# Altium schematic symbol library kmilo17pet-NSC_Switcher.SchLib: 2226 symbols (part 41 of 59)
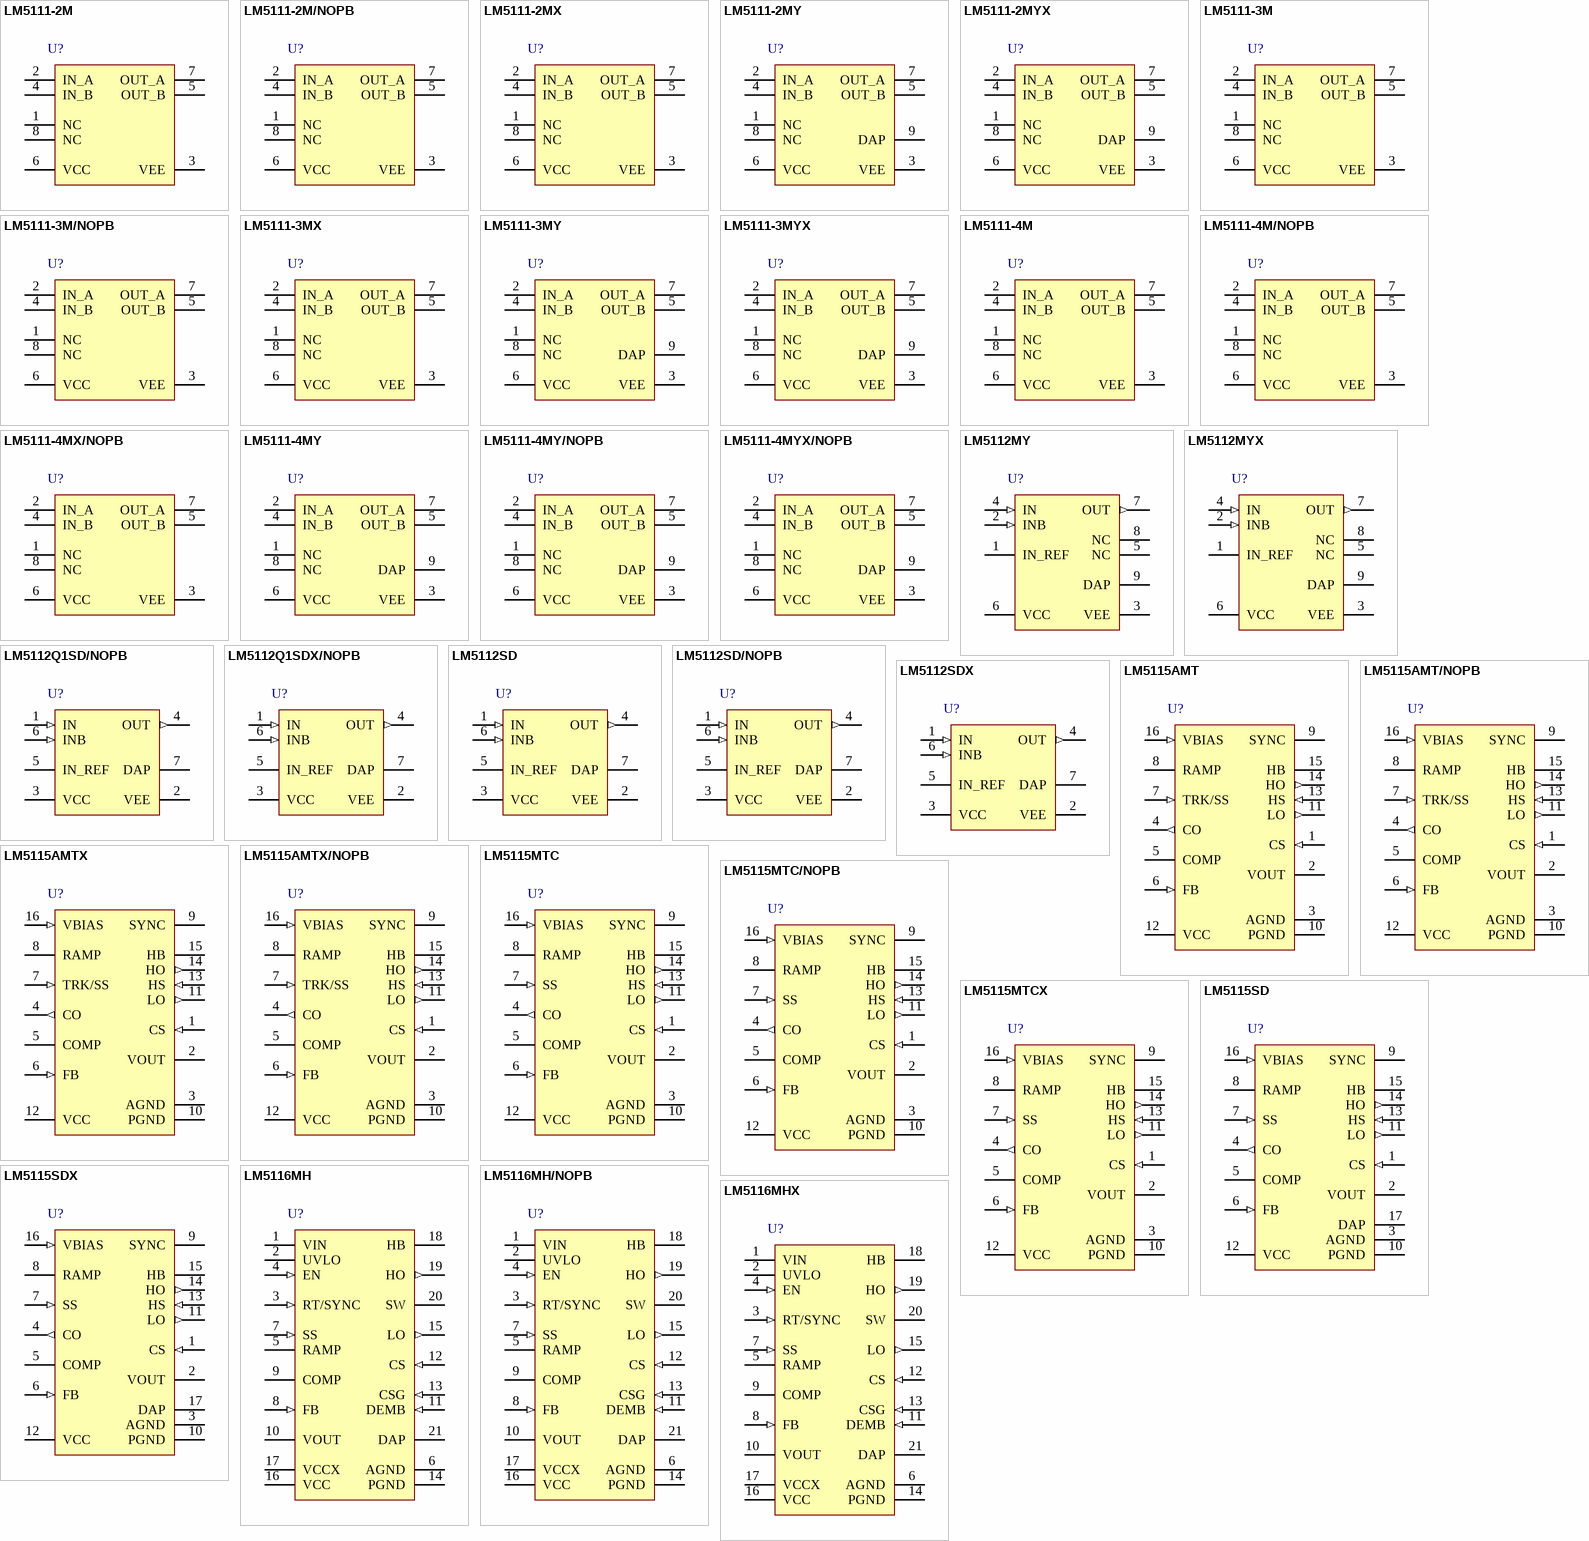
[diagram p109: symbols LM5111-2M to LM5116MHX]

## LM5116MH
designator U?
Wide Range Synchronous Buck Controller, 20-pin TSSOP-EP; PartNumber: LM5116MH; Manufacturer: National Semiconductor; PackageTopMarking: NSUZXYTT*LM5116*MH; PowerWise: Y; CompType: Switcher; DatasheetVersion: Nov-2008; PackageVersion: revC, Jul-2006; PackageReference: MXA20A; PackageDescription: Molded TSSOP, Jedec, 6.5 x 4.4 x 0.9mm Body, 20 Lead, 0.65mm Pitch, Exposed Pad; RoHS: N; PinCount: 20; High-Reliability: Y; Code_JEDEC: MO-153-ACT; ComponentLink1Description: Manufacturer URL; ComponentLink1URL: http://www.national.com/; ComponentLink2Description: LM5116 Datasheet; ComponentLink2URL: http://www.national.com/ds/LM/LM5116.pdf; ComponentLink3Description: LM5116 Web Page; ComponentLink3URL: http://www.national.com/pf/LM/LM5116.html; ComponentLink4Description: MXA20A Package Page; ComponentLink4URL: http://www.national.com/packaging/folders/mxa20a.html
footprint MXA20A_N (TSOP, 20-Leads, Body 6.5x4.4mm, Pitch 0.65mm, Thermal Pad, IPC Medium Density)
footprint MXA20A_L (TSOP, 20-Leads, Body 6.5x4.4mm, Pitch 0.65mm, Thermal Pad, IPC High Density)
footprint MXA20A_M (TSOP, 20-Leads, Body 6.5x4.4mm, Pitch 0.65mm, Thermal Pad, IPC Low Density)
pins: 1 VIN (power), 2 UVLO, 3 RT/SYNC (in), 4 EN (in), 5 RAMP, 6 AGND (power), 7 SS (in), 8 FB (in), 9 COMP, 10 VOUT, 11 DEMB (in), 12 CS (in), 13 CSG (in), 14 PGND (power), 15 LO (out), 16 VCC (power), 17 VCCX (power), 18 HB, 19 HO (out), 20 SW (power), 21 DAP (power)

## LM5116MH/NOPB
designator U?
Wide Range Synchronous Buck Controller, 20-pin TSSOP-EP, Pb-Free; PartNumber: LM5116MH/NOPB; Manufacturer: National Semiconductor; PackageTopMarking: NSUZXYTT*LM5116*MH; PowerWise: Y; CompType: Switcher; DatasheetVersion: Nov-2008; PackageVersion: revC, Jul-2006; PackageReference: MXA20A; PackageDescription: Molded TSSOP, Jedec, 6.5 x 4.4 x 0.9mm Body, 20 Lead, 0.65mm Pitch, Exposed Pad; RoHS: Y; PinCount: 20; High-Reliability: Y; Code_JEDEC: MO-153-ACT; ComponentLink1Description: Manufacturer URL; ComponentLink1URL: http://www.national.com/; ComponentLink2Description: LM5116 Datasheet; ComponentLink2URL: http://www.national.com/ds/LM/LM5116.pdf; ComponentLink3Description: LM5116 Web Page; ComponentLink3URL: http://www.national.com/pf/LM/LM5116.html; ComponentLink4Description: MXA20A Package Page; ComponentLink4URL: http://www.national.com/packaging/folders/mxa20a.html
footprint MXA20A_N (TSOP, 20-Leads, Body 6.5x4.4mm, Pitch 0.65mm, Thermal Pad, IPC Medium Density)
footprint MXA20A_L (TSOP, 20-Leads, Body 6.5x4.4mm, Pitch 0.65mm, Thermal Pad, IPC High Density)
footprint MXA20A_M (TSOP, 20-Leads, Body 6.5x4.4mm, Pitch 0.65mm, Thermal Pad, IPC Low Density)
pins: 1 VIN (power), 2 UVLO, 3 RT/SYNC (in), 4 EN (in), 5 RAMP, 6 AGND (power), 7 SS (in), 8 FB (in), 9 COMP, 10 VOUT, 11 DEMB (in), 12 CS (in), 13 CSG (in), 14 PGND (power), 15 LO (out), 16 VCC (power), 17 VCCX (power), 18 HB, 19 HO (out), 20 SW (power), 21 DAP (power)

## LM5116MHX
designator U?
Wide Range Synchronous Buck Controller, 20-pin TSSOP-EP; PartNumber: LM5116MHX; Manufacturer: National Semiconductor; PackageTopMarking: NSUZXYTT*LM5116*MH; PowerWise: Y; CompType: Switcher; DatasheetVersion: Nov-2008; PackageVersion: revC, Jul-2006; PackageReference: MXA20A; PackageDescription: Molded TSSOP, Jedec, 6.5 x 4.4 x 0.9mm Body, 20 Lead, 0.65mm Pitch, Exposed Pad; RoHS: N; PinCount: 20; High-Reliability: Y; Code_JEDEC: MO-153-ACT; ComponentLink1Description: Manufacturer URL; ComponentLink1URL: http://www.national.com/; ComponentLink2Description: LM5116 Datasheet; ComponentLink2URL: http://www.national.com/ds/LM/LM5116.pdf; ComponentLink3Description: LM5116 Web Page; ComponentLink3URL: http://www.national.com/pf/LM/LM5116.html; ComponentLink4Description: MXA20A Package Page; ComponentLink4URL: http://www.national.com/packaging/folders/mxa20a.html
footprint MXA20A_N (TSOP, 20-Leads, Body 6.5x4.4mm, Pitch 0.65mm, Thermal Pad, IPC Medium Density)
footprint MXA20A_L (TSOP, 20-Leads, Body 6.5x4.4mm, Pitch 0.65mm, Thermal Pad, IPC High Density)
footprint MXA20A_M (TSOP, 20-Leads, Body 6.5x4.4mm, Pitch 0.65mm, Thermal Pad, IPC Low Density)
pins: 1 VIN (power), 2 UVLO, 3 RT/SYNC (in), 4 EN (in), 5 RAMP, 6 AGND (power), 7 SS (in), 8 FB (in), 9 COMP, 10 VOUT, 11 DEMB (in), 12 CS (in), 13 CSG (in), 14 PGND (power), 15 LO (out), 16 VCC (power), 17 VCCX (power), 18 HB, 19 HO (out), 20 SW (power), 21 DAP (power)

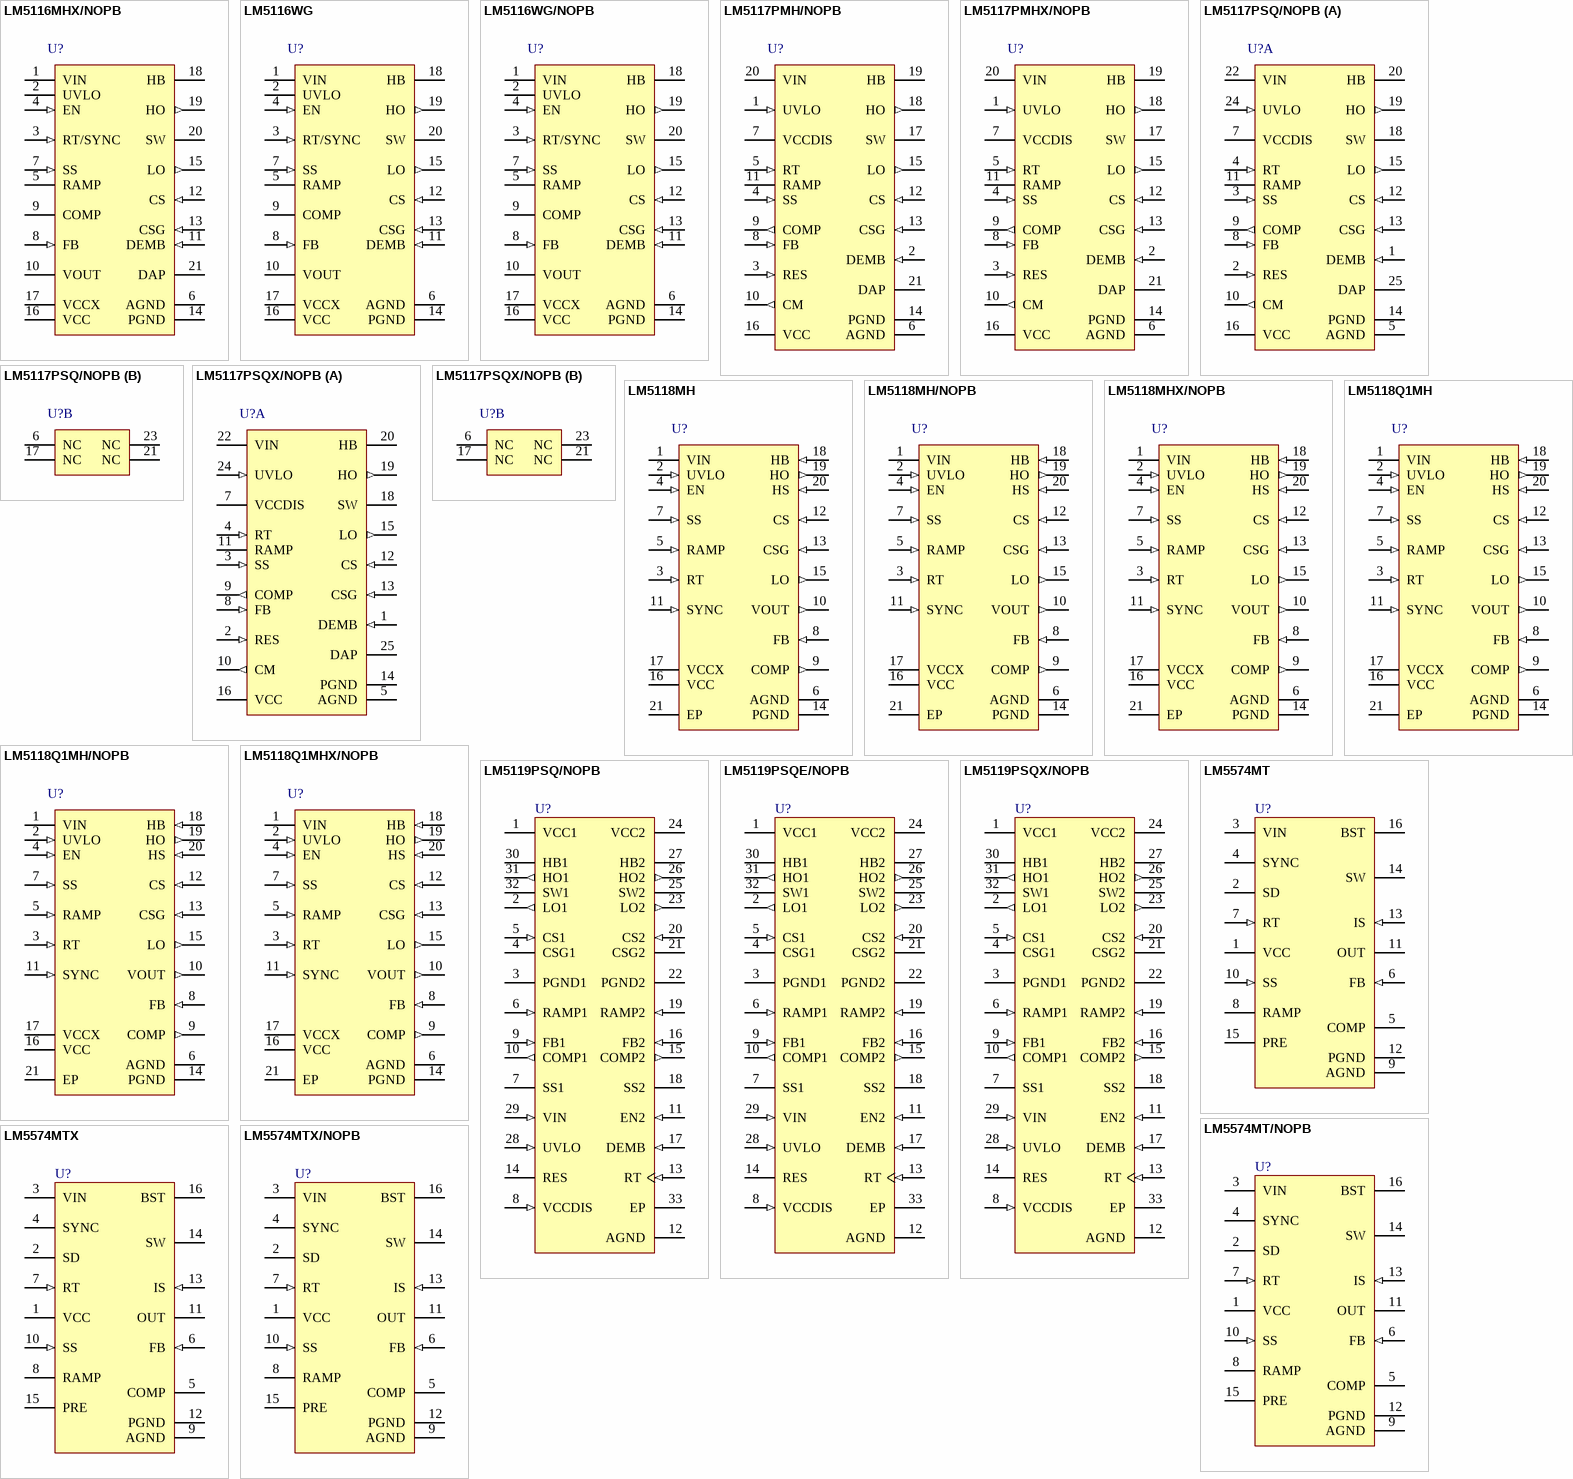
[diagram p45: symbols LM5116MHX/NOPB to LM5574MTX/NOPB]

## LM5116MHX/NOPB
designator U?
Wide Range Synchronous Buck Controller, 20-pin TSSOP-EP, Pb-Free; PartNumber: LM5116MHX/NOPB; Manufacturer: National Semiconductor; PackageTopMarking: NSUZXYTT*LM5116*MH; PowerWise: Y; CompType: Switcher; DatasheetVersion: Nov-2008; PackageVersion: revC, Jul-2006; PackageReference: MXA20A; PackageDescription: Molded TSSOP, Jedec, 6.5 x 4.4 x 0.9mm Body, 20 Lead, 0.65mm Pitch, Exposed Pad; RoHS: Y; PinCount: 20; High-Reliability: Y; Code_JEDEC: MO-153-ACT; ComponentLink1Description: Manufacturer URL; ComponentLink1URL: http://www.national.com/; ComponentLink2Description: LM5116 Datasheet; ComponentLink2URL: http://www.national.com/ds/LM/LM5116.pdf; ComponentLink3Description: LM5116 Web Page; ComponentLink3URL: http://www.national.com/pf/LM/LM5116.html; ComponentLink4Description: MXA20A Package Page; ComponentLink4URL: http://www.national.com/packaging/folders/mxa20a.html
footprint MXA20A_N (TSOP, 20-Leads, Body 6.5x4.4mm, Pitch 0.65mm, Thermal Pad, IPC Medium Density)
footprint MXA20A_L (TSOP, 20-Leads, Body 6.5x4.4mm, Pitch 0.65mm, Thermal Pad, IPC High Density)
footprint MXA20A_M (TSOP, 20-Leads, Body 6.5x4.4mm, Pitch 0.65mm, Thermal Pad, IPC Low Density)
pins: 1 VIN (power), 2 UVLO, 3 RT/SYNC (in), 4 EN (in), 5 RAMP, 6 AGND (power), 7 SS (in), 8 FB (in), 9 COMP, 10 VOUT, 11 DEMB (in), 12 CS (in), 13 CSG (in), 14 PGND (power), 15 LO (out), 16 VCC (power), 17 VCCX (power), 18 HB, 19 HO (out), 20 SW (power), 21 DAP (power)

## LM5116WG
designator U?
Wide Range Synchronous Buck Controller, 20-pin CerPACK; PartNumber: LM5116WG; Manufacturer: National Semiconductor; PackageTopMarking: NSUZXYTT*LM5116WG; PowerWise: Y; CompType: Switcher; DatasheetVersion: Oct-2008; PackageVersion: revD, Aug-2008; PackageReference: WG20A; PackageDescription: Cerpack, .540 x .266 x .075in, 20 Lead, .050in Pitch, Gull Wing; RoHS: Y; PinCount: 20; High-Reliability: Y; ComponentLink1Description: Manufacturer URL; ComponentLink1URL: http://www.national.com/; ComponentLink2Description: LM5116WG Datasheet; ComponentLink2URL: http://www.national.com/ds/LM/LM5116WG.pdf; ComponentLink3Description: LM5116WG Web Page; ComponentLink3URL: http://www.national.com/pf/LM/LM5116WG.html; ComponentLink4Description: WG20A Package Page; ComponentLink4URL: http://www.national.com/packaging/folders/wg20a.html
footprint WG20A_N (CERPACK, 20-Leads, Body 26.6x9.4mm, Pitch 1.27mm, IPC Medium Density)
footprint WG20A_L (CERPACK, 20-Leads, Body 26.6x9.4mm, Pitch 1.27mm, IPC High Density)
footprint WG20A_M (CERPACK, 20-Leads, Body 26.6x9.4mm, Pitch 1.27mm, IPC Low Density)
pins: 1 VIN (power), 2 UVLO, 3 RT/SYNC (in), 4 EN (in), 5 RAMP, 6 AGND (power), 7 SS (in), 8 FB (in), 9 COMP, 10 VOUT, 11 DEMB (in), 12 CS (in), 13 CSG (in), 14 PGND (power), 15 LO (out), 16 VCC (power), 17 VCCX (power), 18 HB, 19 HO (out), 20 SW (power)

## LM5116WG/NOPB
designator U?
Wide Range Synchronous Buck Controller, 20-pin CerPACK, Pb-Free; PartNumber: LM5116WG/NOPB; Manufacturer: National Semiconductor; PackageTopMarking: NSUZXYTTE#*LM5116WG; PowerWise: Y; CompType: Switcher; DatasheetVersion: Oct-2008; PackageVersion: revD, Aug-2008; PackageReference: WG20A; PackageDescription: Cerpack, .540 x .266 x .075in, 20 Lead, .050in Pitch, Gull Wing; RoHS: Y; PinCount: 20; High-Reliability: Y; ComponentLink1Description: Manufacturer URL; ComponentLink1URL: http://www.national.com/; ComponentLink2Description: LM5116WG Datasheet; ComponentLink2URL: http://www.national.com/ds/LM/LM5116WG.pdf; ComponentLink3Description: LM5116WG Web Page; ComponentLink3URL: http://www.national.com/pf/LM/LM5116WG.html; ComponentLink4Description: WG20A Package Page; ComponentLink4URL: http://www.national.com/packaging/folders/wg20a.html
footprint WG20A_N (CERPACK, 20-Leads, Body 26.6x9.4mm, Pitch 1.27mm, IPC Medium Density)
footprint WG20A_L (CERPACK, 20-Leads, Body 26.6x9.4mm, Pitch 1.27mm, IPC High Density)
footprint WG20A_M (CERPACK, 20-Leads, Body 26.6x9.4mm, Pitch 1.27mm, IPC Low Density)
pins: 1 VIN (power), 2 UVLO, 3 RT/SYNC (in), 4 EN (in), 5 RAMP, 6 AGND (power), 7 SS (in), 8 FB (in), 9 COMP, 10 VOUT, 11 DEMB (in), 12 CS (in), 13 CSG (in), 14 PGND (power), 15 LO (out), 16 VCC (power), 17 VCCX (power), 18 HB, 19 HO (out), 20 SW (power)

## LM5117PMH/NOPB
designator U?
Wide Input Range Synchronous Buck Controller with Analog Current Monitor, 20-pin TSSOP-EP, 73 Rail; PartNumber: LM5117PMH/NOPB; Manufacturer: National Semiconductor; PackageTopMarking: NSUZXYTT*LM5117*PMH; PowerWise: Y; CompType: Switcher; DatasheetVersion: Sep-2011; PackageVersion: revC, Jul-2006; PackageReference: MXA20A; PackageDescription: Molded TSSOP, Jedec, 6.5 x 4.4 x 0.9mm Body, 20 Lead, 0.65mm Pitch, Exposed Pad; RoHS: Y; PinCount: 20; High-Reliability: Y; Code_JEDEC: MO-153-ACT; ComponentLink1Description: Manufacturer URL; ComponentLink1URL: http://www.national.com/; ComponentLink2Description: LM5117 Datasheet; ComponentLink2URL: http://www.national.com/ds/LM/LM5117.pdf; ComponentLink3Description: LM5117 Web Page; ComponentLink3URL: http://www.national.com/pf/LM/LM5117.html; ComponentLink4Description: MXA20A Package Page; ComponentLink4URL: http://www.national.com/packaging/folders/mxa20a.html
footprint MXA20A_N (TSOP, 20-Leads, Body 6.5x4.4mm, Pitch 0.65mm, Thermal Pad, IPC Medium Density)
footprint MXA20A_L (TSOP, 20-Leads, Body 6.5x4.4mm, Pitch 0.65mm, Thermal Pad, IPC High Density)
footprint MXA20A_M (TSOP, 20-Leads, Body 6.5x4.4mm, Pitch 0.65mm, Thermal Pad, IPC Low Density)
pins: 1 UVLO (in), 2 DEMB (in), 3 RES (in), 4 SS (in), 5 RT (in), 6 AGND (power), 7 VCCDIS, 8 FB (in), 9 COMP (out), 10 CM (out), 11 RAMP, 12 CS (in), 13 CSG (in), 14 PGND (power), 15 LO (out), 16 VCC (power), 17 SW (power), 18 HO (out), 19 HB, 20 VIN (power), 21 DAP (power)

## LM5117PMHX/NOPB
designator U?
Wide Input Range Synchronous Buck Controller with Analog Current Monitor, 20-pin TSSOP-EP, 2500 Reel; PartNumber: LM5117PMHX/NOPB; Manufacturer: National Semiconductor; PackageTopMarking: NSUZXYTT*LM5117*PMH; PowerWise: Y; CompType: Switcher; DatasheetVersion: Sep-2011; PackageVersion: revC, Jul-2006; PackageReference: MXA20A; PackageDescription: Molded TSSOP, Jedec, 6.5 x 4.4 x 0.9mm Body, 20 Lead, 0.65mm Pitch, Exposed Pad; RoHS: Y; PinCount: 20; High-Reliability: Y; Code_JEDEC: MO-153-ACT; ComponentLink1Description: Manufacturer URL; ComponentLink1URL: http://www.national.com/; ComponentLink2Description: LM5117 Datasheet; ComponentLink2URL: http://www.national.com/ds/LM/LM5117.pdf; ComponentLink3Description: LM5117 Web Page; ComponentLink3URL: http://www.national.com/pf/LM/LM5117.html; ComponentLink4Description: MXA20A Package Page; ComponentLink4URL: http://www.national.com/packaging/folders/mxa20a.html
footprint MXA20A_N (TSOP, 20-Leads, Body 6.5x4.4mm, Pitch 0.65mm, Thermal Pad, IPC Medium Density)
footprint MXA20A_L (TSOP, 20-Leads, Body 6.5x4.4mm, Pitch 0.65mm, Thermal Pad, IPC High Density)
footprint MXA20A_M (TSOP, 20-Leads, Body 6.5x4.4mm, Pitch 0.65mm, Thermal Pad, IPC Low Density)
pins: 1 UVLO (in), 2 DEMB (in), 3 RES (in), 4 SS (in), 5 RT (in), 6 AGND (power), 7 VCCDIS, 8 FB (in), 9 COMP (out), 10 CM (out), 11 RAMP, 12 CS (in), 13 CSG (in), 14 PGND (power), 15 LO (out), 16 VCC (power), 17 SW (power), 18 HO (out), 19 HB, 20 VIN (power), 21 DAP (power)

## LM5117PSQ/NOPB
designator U?
Wide Input Range Synchronous Buck Controller with Analog Current Monitor, 24-pin LLP, 1000 Reel; PartNumber: LM5117PSQ/NOPB; Manufacturer: National Semiconductor; PackageTopMarking: NS*UZXYTT*L5117P; PowerWise: Y; CompType: Switcher; DatasheetVersion: Sep-2011; PackageVersion: revB, Aug-2003; PackageReference: SQA24A; PackageDescription: LLP, Plastic, Quad, 4 x 4 x 0.8mm Body, 24 Lead, 0.5mm Pitch, No Pullback; RoHS: Y; PinCount: 24; High-Reliability: Y; Code_JEDEC: MO-220-WGGD-6; ComponentLink1Description: Manufacturer URL; ComponentLink1URL: http://www.national.com/; ComponentLink2Description: LM5117 Datasheet; ComponentLink2URL: http://www.national.com/ds/LM/LM5117.pdf; ComponentLink3Description: LM5117 Web Page; ComponentLink3URL: http://www.national.com/pf/LM/LM5117.html; ComponentLink4Description: SQA24A Package Page; ComponentLink4URL: http://www.national.com/packaging/folders/sqa24a.html
footprint SQA24A (QFN, 24-Leads, Body 4x4mm, Pitch 0.5mm, Thermal Pad 2.7x2.7mm, NSC Recommended)
part A pins: 1 DEMB (in), 2 RES (in), 3 SS (in), 4 RT (in), 5 AGND (power), 7 VCCDIS, 8 FB (in), 9 COMP (out), 10 CM (out), 11 RAMP, 12 CS (in), 13 CSG (in), 14 PGND (power), 15 LO (out), 16 VCC (power), 18 SW (power), 19 HO (out), 20 HB, 22 VIN (power), 24 UVLO (in), 25 DAP (power)
part B pins: 6 NC, 17 NC, 21 NC, 23 NC

## LM5117PSQX/NOPB
designator U?
Wide Input Range Synchronous Buck Controller with Analog Current Monitor, 24-pin LLP, 4500 Reel; PartNumber: LM5117PSQX/NOPB; Manufacturer: National Semiconductor; PackageTopMarking: NS*UZXYTT*L5117P; PowerWise: Y; CompType: Switcher; DatasheetVersion: Sep-2011; PackageVersion: revB, Aug-2003; PackageReference: SQA24A; PackageDescription: LLP, Plastic, Quad, 4 x 4 x 0.8mm Body, 24 Lead, 0.5mm Pitch, No Pullback; RoHS: Y; PinCount: 24; High-Reliability: Y; Code_JEDEC: MO-220-WGGD-6; ComponentLink1Description: Manufacturer URL; ComponentLink1URL: http://www.national.com/; ComponentLink2Description: LM5117 Datasheet; ComponentLink2URL: http://www.national.com/ds/LM/LM5117.pdf; ComponentLink3Description: LM5117 Web Page; ComponentLink3URL: http://www.national.com/pf/LM/LM5117.html; ComponentLink4Description: SQA24A Package Page; ComponentLink4URL: http://www.national.com/packaging/folders/sqa24a.html
footprint SQA24A (QFN, 24-Leads, Body 4x4mm, Pitch 0.5mm, Thermal Pad 2.7x2.7mm, NSC Recommended)
part A pins: 1 DEMB (in), 2 RES (in), 3 SS (in), 4 RT (in), 5 AGND (power), 7 VCCDIS, 8 FB (in), 9 COMP (out), 10 CM (out), 11 RAMP, 12 CS (in), 13 CSG (in), 14 PGND (power), 15 LO (out), 16 VCC (power), 18 SW (power), 19 HO (out), 20 HB, 22 VIN (power), 24 UVLO (in), 25 DAP (power)
part B pins: 6 NC, 17 NC, 21 NC, 23 NC

## LM5118MH
designator U?
Wide Voltage Range Buck-Boost Controller, 20-pin TSSOP-EP; PartNumber: LM5118MH; Manufacturer: National Semiconductor; PackageTopMarking: NSUZXYTT*LM5118*MH; PowerWise: Y; CompType: Switcher; DatasheetVersion: Jul-2009; PackageVersion: revC, Jul-2006; PackageReference: MXA20A; PackageDescription: Molded TSSOP, Jedec, 6.5 x 4.4 x 0.9mm Body, 20 Lead, 0.65mm Pitch, Exposed Pad; RoHS: Y; PinCount: 20; High-Reliability: Y; Code_JEDEC: MO-153-ACT; ComponentLink1Description: Manufacturer URL; ComponentLink1URL: http://www.national.com/; ComponentLink2Description: LM5118 Datasheet; ComponentLink2URL: http://www.national.com/ds/LM/LM5118.pdf; ComponentLink3Description: LM5118 Web Page; ComponentLink3URL: http://www.national.com/pf/LM/LM5118.html; ComponentLink4Description: MXA20A Package Page; ComponentLink4URL: http://www.national.com/packaging/folders/mxa20a.html
footprint MXA20A_N (TSOP, 20-Leads, Body 6.5x4.4mm, Pitch 0.65mm, Thermal Pad, IPC Medium Density)
footprint MXA20A_L (TSOP, 20-Leads, Body 6.5x4.4mm, Pitch 0.65mm, Thermal Pad, IPC High Density)
footprint MXA20A_M (TSOP, 20-Leads, Body 6.5x4.4mm, Pitch 0.65mm, Thermal Pad, IPC Low Density)
pins: 1 VIN (power), 2 UVLO (in), 3 RT (in), 4 EN (in), 5 RAMP (in), 6 AGND (power), 7 SS (in), 8 FB (in), 9 COMP (out), 10 VOUT (out), 11 SYNC (in), 12 CS (in), 13 CSG (in), 14 PGND (power), 15 LO (out), 16 VCC (power), 17 VCCX (power), 18 HB (in), 19 HO (out), 20 HS (in), 21 EP (power)

## LM5118MH/NOPB
designator U?
Wide Voltage Range Buck-Boost Controller, 20-pin TSSOP-EP, Pb-Free; PartNumber: LM5118MH/NOPB; Manufacturer: National Semiconductor; PackageTopMarking: NSUZXYTT*LM5118*MH; PowerWise: Y; CompType: Switcher; DatasheetVersion: Jul-2009; PackageVersion: revC, Jul-2006; PackageReference: MXA20A; PackageDescription: Molded TSSOP, Jedec, 6.5 x 4.4 x 0.9mm Body, 20 Lead, 0.65mm Pitch, Exposed Pad; RoHS: Y; PinCount: 20; High-Reliability: Y; Code_JEDEC: MO-153-ACT; ComponentLink1Description: Manufacturer URL; ComponentLink1URL: http://www.national.com/; ComponentLink2Description: LM5118 Datasheet; ComponentLink2URL: http://www.national.com/ds/LM/LM5118.pdf; ComponentLink3Description: LM5118 Web Page; ComponentLink3URL: http://www.national.com/pf/LM/LM5118.html; ComponentLink4Description: MXA20A Package Page; ComponentLink4URL: http://www.national.com/packaging/folders/mxa20a.html
footprint MXA20A_N (TSOP, 20-Leads, Body 6.5x4.4mm, Pitch 0.65mm, Thermal Pad, IPC Medium Density)
footprint MXA20A_L (TSOP, 20-Leads, Body 6.5x4.4mm, Pitch 0.65mm, Thermal Pad, IPC High Density)
footprint MXA20A_M (TSOP, 20-Leads, Body 6.5x4.4mm, Pitch 0.65mm, Thermal Pad, IPC Low Density)
pins: 1 VIN (power), 2 UVLO (in), 3 RT (in), 4 EN (in), 5 RAMP (in), 6 AGND (power), 7 SS (in), 8 FB (in), 9 COMP (out), 10 VOUT (out), 11 SYNC (in), 12 CS (in), 13 CSG (in), 14 PGND (power), 15 LO (out), 16 VCC (power), 17 VCCX (power), 18 HB (in), 19 HO (out), 20 HS (in), 21 EP (power)

## LM5118MHX/NOPB
designator U?
Wide Voltage Range Buck-Boost Controller, 20-pin TSSOP-EP, Pb-Free; PartNumber: LM5118MHX/NOPB; Manufacturer: National Semiconductor; PackageTopMarking: NSUZXYTT*LM5118*MH; PowerWise: Y; CompType: Switcher; DatasheetVersion: Jul-2009; PackageVersion: revC, Jul-2006; PackageReference: MXA20A; PackageDescription: Molded TSSOP, Jedec, 6.5 x 4.4 x 0.9mm Body, 20 Lead, 0.65mm Pitch, Exposed Pad; RoHS: Y; PinCount: 20; High-Reliability: Y; Code_JEDEC: MO-153-ACT; ComponentLink1Description: Manufacturer URL; ComponentLink1URL: http://www.national.com/; ComponentLink2Description: LM5118 Datasheet; ComponentLink2URL: http://www.national.com/ds/LM/LM5118.pdf; ComponentLink3Description: LM5118 Web Page; ComponentLink3URL: http://www.national.com/pf/LM/LM5118.html; ComponentLink4Description: MXA20A Package Page; ComponentLink4URL: http://www.national.com/packaging/folders/mxa20a.html
footprint MXA20A_N (TSOP, 20-Leads, Body 6.5x4.4mm, Pitch 0.65mm, Thermal Pad, IPC Medium Density)
footprint MXA20A_L (TSOP, 20-Leads, Body 6.5x4.4mm, Pitch 0.65mm, Thermal Pad, IPC High Density)
footprint MXA20A_M (TSOP, 20-Leads, Body 6.5x4.4mm, Pitch 0.65mm, Thermal Pad, IPC Low Density)
pins: 1 VIN (power), 2 UVLO (in), 3 RT (in), 4 EN (in), 5 RAMP (in), 6 AGND (power), 7 SS (in), 8 FB (in), 9 COMP (out), 10 VOUT (out), 11 SYNC (in), 12 CS (in), 13 CSG (in), 14 PGND (power), 15 LO (out), 16 VCC (power), 17 VCCX (power), 18 HB (in), 19 HO (out), 20 HS (in), 21 EP (power)

## LM5118Q1MH
designator U?
Wide Voltage Range Buck-Boost Controller, Automotive Grade, 20-pin TSSOP-EP; PartNumber: LM5118Q1MH; Manufacturer: National Semiconductor; PackageTopMarking: NSUZXYTT*LM5118*Q1MH; PowerWise: N; CompType: Switcher; High-Reliability: Y; DatasheetVersion: Jul-2009; PackageVersion: revC, Jul-2006; PackageReference: MXA20A; PackageDescription: Molded TSSOP, Jedec, 6.5 x 4.4 x 0.9mm Body, 20 Lead, 0.65mm Pitch, Exposed Pad; RoHS: Y; PinCount: 20; Code_JEDEC: MO-153-ACT; ComponentLink1Description: Manufacturer URL; ComponentLink1URL: http://www.national.com/; ComponentLink2Description: LM5118 Datasheet; ComponentLink2URL: http://www.national.com/ds/LM/LM5118.pdf; ComponentLink3Description: LM5118 Web Page; ComponentLink3URL: http://www.national.com/pf/LM/LM5118.html; ComponentLink4Description: MXA20A Package Page; ComponentLink4URL: http://www.national.com/packaging/folders/mxa20a.html
footprint MXA20A_N (TSOP, 20-Leads, Body 6.5x4.4mm, Pitch 0.65mm, Thermal Pad, IPC Medium Density)
footprint MXA20A_L (TSOP, 20-Leads, Body 6.5x4.4mm, Pitch 0.65mm, Thermal Pad, IPC High Density)
footprint MXA20A_M (TSOP, 20-Leads, Body 6.5x4.4mm, Pitch 0.65mm, Thermal Pad, IPC Low Density)
pins: 1 VIN (power), 2 UVLO (in), 3 RT (in), 4 EN (in), 5 RAMP (in), 6 AGND (power), 7 SS (in), 8 FB (in), 9 COMP (out), 10 VOUT (out), 11 SYNC (in), 12 CS (in), 13 CSG (in), 14 PGND (power), 15 LO (out), 16 VCC (power), 17 VCCX (power), 18 HB (in), 19 HO (out), 20 HS (in), 21 EP (power)

## LM5118Q1MH/NOPB
designator U?
Wide Voltage Range Buck-Boost Controller, 20-pin TSSOP-EP, Pb-Free; PartNumber: LM5118Q1MH/NOPB; Manufacturer: National Semiconductor; PackageTopMarking: NSUZXYTT*LM5118*Q1MH; PowerWise: N; CompType: Switcher; High-Reliability: Y; DatasheetVersion: Jul-2009; PackageVersion: revC, Jul-2006; PackageReference: MXA20A; PackageDescription: Molded TSSOP, Jedec, 6.5 x 4.4 x 0.9mm Body, 20 Lead, 0.65mm Pitch, Exposed Pad; RoHS: Y; PinCount: 20; Code_JEDEC: MO-153-ACT; ComponentLink1Description: Manufacturer URL; ComponentLink1URL: http://www.national.com/; ComponentLink2Description: LM5118 Datasheet; ComponentLink2URL: http://www.national.com/ds/LM/LM5118.pdf; ComponentLink3Description: LM5118 Web Page; ComponentLink3URL: http://www.national.com/pf/LM/LM5118.html; ComponentLink4Description: MXA20A Package Page; ComponentLink4URL: http://www.national.com/packaging/folders/mxa20a.html
footprint MXA20A_N (TSOP, 20-Leads, Body 6.5x4.4mm, Pitch 0.65mm, Thermal Pad, IPC Medium Density)
footprint MXA20A_L (TSOP, 20-Leads, Body 6.5x4.4mm, Pitch 0.65mm, Thermal Pad, IPC High Density)
footprint MXA20A_M (TSOP, 20-Leads, Body 6.5x4.4mm, Pitch 0.65mm, Thermal Pad, IPC Low Density)
pins: 1 VIN (power), 2 UVLO (in), 3 RT (in), 4 EN (in), 5 RAMP (in), 6 AGND (power), 7 SS (in), 8 FB (in), 9 COMP (out), 10 VOUT (out), 11 SYNC (in), 12 CS (in), 13 CSG (in), 14 PGND (power), 15 LO (out), 16 VCC (power), 17 VCCX (power), 18 HB (in), 19 HO (out), 20 HS (in), 21 EP (power)

## LM5118Q1MHX/NOPB
designator U?
Wide Voltage Range Buck-Boost Controller, 20-pin TSSOP-EP, Pb-Free; PartNumber: LM5118Q1MHX/NOPB; Manufacturer: National Semiconductor; PackageTopMarking: NSUZXYTT*LM5118*Q1MH; PowerWise: N; CompType: Switcher; High-Reliability: Y; DatasheetVersion: Jul-2009; PackageVersion: revC, Jul-2006; PackageReference: MXA20A; PackageDescription: Molded TSSOP, Jedec, 6.5 x 4.4 x 0.9mm Body, 20 Lead, 0.65mm Pitch, Exposed Pad; RoHS: Y; PinCount: 20; Code_JEDEC: MO-153-ACT; ComponentLink1Description: Manufacturer URL; ComponentLink1URL: http://www.national.com/; ComponentLink2Description: LM5118 Datasheet; ComponentLink2URL: http://www.national.com/ds/LM/LM5118.pdf; ComponentLink3Description: LM5118 Web Page; ComponentLink3URL: http://www.national.com/pf/LM/LM5118.html; ComponentLink4Description: MXA20A Package Page; ComponentLink4URL: http://www.national.com/packaging/folders/mxa20a.html
footprint MXA20A_N (TSOP, 20-Leads, Body 6.5x4.4mm, Pitch 0.65mm, Thermal Pad, IPC Medium Density)
footprint MXA20A_L (TSOP, 20-Leads, Body 6.5x4.4mm, Pitch 0.65mm, Thermal Pad, IPC High Density)
footprint MXA20A_M (TSOP, 20-Leads, Body 6.5x4.4mm, Pitch 0.65mm, Thermal Pad, IPC Low Density)
pins: 1 VIN (power), 2 UVLO (in), 3 RT (in), 4 EN (in), 5 RAMP (in), 6 AGND (power), 7 SS (in), 8 FB (in), 9 COMP (out), 10 VOUT (out), 11 SYNC (in), 12 CS (in), 13 CSG (in), 14 PGND (power), 15 LO (out), 16 VCC (power), 17 VCCX (power), 18 HB (in), 19 HO (out), 20 HS (in), 21 EP (power)

## LM5119PSQ/NOPB
designator U?
Wide Input Range Dual Synchronous Buck Controller, 32-pin LLP, 1000 Reel; PartNumber: LM5119PSQ/NOPB; Manufacturer: National Semiconductor; PackageTopMarking: NS*UZXYTT*L5119P; PowerWise: Y; CompType: Switcher; DatasheetVersion: Sep-2010; PackageVersion: revB, Oct-2009; PackageReference: SQA32A; PackageDescription: LLP, Quad, 5 x 5 x 0.8mm, 32 Lead, 0.5mm Pitch, No Pullback 3.1 x 3.1 Exposed Pad; RoHS: Y; PinCount: 32; High-Reliability: Y; ComponentLink1Description: Manufacturer URL; ComponentLink1URL: http://www.national.com/; ComponentLink2Description: LM5119 Datasheet; ComponentLink2URL: http://www.national.com/ds/LM/LM5119.pdf; ComponentLink3Description: LM5119 Web Page; ComponentLink3URL: http://www.national.com/pf/LM/LM5119.html; ComponentLink4Description: SQA32A Package Page; ComponentLink4URL: http://www.national.com/packaging/folders/sqa32a.html
footprint SQA32A (QFN, 32-Leads, Body 5x5mm, Pitch 0.5mm, Thermal Pad 3.2x3.2mm, NSC Recommended)
pins: 1 VCC1 (power), 2 LO1 (out), 3 PGND1 (power), 4 CSG1, 5 CS1 (in), 6 RAMP1 (in), 7 SS1, 8 VCCDIS (in), 9 FB1 (in), 10 COMP1 (out), 11 EN2 (in), 12 AGND (power), 13 RT (in), 14 RES, 15 COMP2 (out), 16 FB2 (in), 17 DEMB (in), 18 SS2, 19 RAMP2 (in), 20 CS2 (in), 21 CSG2, 22 PGND2 (power), 23 LO2 (out), 24 VCC2 (power), 25 SW2, 26 HO2 (out), 27 HB2, 28 UVLO (in), 29 VIN (in), 30 HB1, 31 HO1 (out), 32 SW1, 33 EP (power)

## LM5119PSQE/NOPB
designator U?
Wide Input Range Dual Synchronous Buck Controller, 32-pin LLP, 250 Reel; PartNumber: LM5119PSQE/NOPB; Manufacturer: National Semiconductor; PackageTopMarking: NS*UZXYTT*L5119P; PowerWise: Y; CompType: Switcher; DatasheetVersion: Sep-2010; PackageVersion: revB, Oct-2009; PackageReference: SQA32A; PackageDescription: LLP, Quad, 5 x 5 x 0.8mm, 32 Lead, 0.5mm Pitch, No Pullback 3.1 x 3.1 Exposed Pad; RoHS: Y; PinCount: 32; High-Reliability: Y; ComponentLink1Description: Manufacturer URL; ComponentLink1URL: http://www.national.com/; ComponentLink2Description: LM5119 Datasheet; ComponentLink2URL: http://www.national.com/ds/LM/LM5119.pdf; ComponentLink3Description: LM5119 Web Page; ComponentLink3URL: http://www.national.com/pf/LM/LM5119.html; ComponentLink4Description: SQA32A Package Page; ComponentLink4URL: http://www.national.com/packaging/folders/sqa32a.html
footprint SQA32A (QFN, 32-Leads, Body 5x5mm, Pitch 0.5mm, Thermal Pad 3.2x3.2mm, NSC Recommended)
pins: 1 VCC1 (power), 2 LO1 (out), 3 PGND1 (power), 4 CSG1, 5 CS1 (in), 6 RAMP1 (in), 7 SS1, 8 VCCDIS (in), 9 FB1 (in), 10 COMP1 (out), 11 EN2 (in), 12 AGND (power), 13 RT (in), 14 RES, 15 COMP2 (out), 16 FB2 (in), 17 DEMB (in), 18 SS2, 19 RAMP2 (in), 20 CS2 (in), 21 CSG2, 22 PGND2 (power), 23 LO2 (out), 24 VCC2 (power), 25 SW2, 26 HO2 (out), 27 HB2, 28 UVLO (in), 29 VIN (in), 30 HB1, 31 HO1 (out), 32 SW1, 33 EP (power)

## LM5119PSQX/NOPB
designator U?
Wide Input Range Dual Synchronous Buck Controller, 32-pin LLP, 4500 Reel; PartNumber: LM5119PSQX/NOPB; Manufacturer: National Semiconductor; PackageTopMarking: NS*UZXYTT*L5119P; PowerWise: Y; CompType: Switcher; DatasheetVersion: Sep-2010; PackageVersion: revB, Oct-2009; PackageReference: SQA32A; PackageDescription: LLP, Quad, 5 x 5 x 0.8mm, 32 Lead, 0.5mm Pitch, No Pullback 3.1 x 3.1 Exposed Pad; RoHS: Y; PinCount: 32; High-Reliability: Y; ComponentLink1Description: Manufacturer URL; ComponentLink1URL: http://www.national.com/; ComponentLink2Description: LM5119 Datasheet; ComponentLink2URL: http://www.national.com/ds/LM/LM5119.pdf; ComponentLink3Description: LM5119 Web Page; ComponentLink3URL: http://www.national.com/pf/LM/LM5119.html; ComponentLink4Description: SQA32A Package Page; ComponentLink4URL: http://www.national.com/packaging/folders/sqa32a.html
footprint SQA32A (QFN, 32-Leads, Body 5x5mm, Pitch 0.5mm, Thermal Pad 3.2x3.2mm, NSC Recommended)
pins: 1 VCC1 (power), 2 LO1 (out), 3 PGND1 (power), 4 CSG1, 5 CS1 (in), 6 RAMP1 (in), 7 SS1, 8 VCCDIS (in), 9 FB1 (in), 10 COMP1 (out), 11 EN2 (in), 12 AGND (power), 13 RT (in), 14 RES, 15 COMP2 (out), 16 FB2 (in), 17 DEMB (in), 18 SS2, 19 RAMP2 (in), 20 CS2 (in), 21 CSG2, 22 PGND2 (power), 23 LO2 (out), 24 VCC2 (power), 25 SW2, 26 HO2 (out), 27 HB2, 28 UVLO (in), 29 VIN (in), 30 HB1, 31 HO1 (out), 32 SW1, 33 EP (power)

## LM5574MT
designator U?
SIMPLE SWITCHER® 75V, 0.5A Step-Down Switching Regulator, 16-pin TSSOP; PartNumber: LM5574MT; Manufacturer: National Semiconductor; PackageTopMarking: NSUZXYTT*LM5574*MT; PowerWise: Y; DatasheetVersion: Mar-2007; PackageVersion: revD, Jun-2003; PackageReference: MTC16; PackageDescription: Molded TSSOP, Jedec, 5 x 4.4 x 0.9mm Body, 16 Lead, 0.65mm Pitch; RoHS: N; PinCount: 16; CompType: Switcher; High-Reliability: Y; Code_JEDEC: MO-153-AB; ComponentLink1Description: Manufacturer URL; ComponentLink1URL: http://www.national.com/; ComponentLink2Description: LM5574 Datasheet; ComponentLink2URL: http://www.national.com/ds/LM/LM5574.pdf; ComponentLink3Description: LM5574 Web Page; ComponentLink3URL: http://www.national.com/pf/LM/LM5574.html; ComponentLink4Description: MTC16 Package Page; ComponentLink4URL: http://www.national.com/packaging/folders/mtc16.html
footprint MTC16_N (TSOP, 16-Leads, Body 5x4.4mm, Pitch 0.65mm, IPC Medium Density)
footprint MTC16_L (TSOP, 16-Leads, Body 5x4.4mm, Pitch 0.65mm, IPC High Density)
footprint MTC16_M (TSOP, 16-Leads, Body 5x4.4mm, Pitch 0.65mm, IPC Low Density)
pins: 1 VCC (power), 2 SD, 3 VIN (power), 4 SYNC, 5 COMP, 6 FB (in), 7 RT (in), 8 RAMP, 9 AGND (power), 10 SS (in), 11 OUT (power), 12 PGND (power), 13 IS (in), 14 SW (power), 15 PRE (oc), 16 BST

## LM5574MT/NOPB
designator U?
SIMPLE SWITCHER® 75V, 0.5A Step-Down Switching Regulator, 16-pin TSSOP, Pb-Free; PartNumber: LM5574MT/NOPB; Manufacturer: National Semiconductor; PackageTopMarking: NSUZXYTT*LM5574*MT; PowerWise: Y; DatasheetVersion: Mar-2007; PackageVersion: revD, Jun-2003; PackageReference: MTC16; PackageDescription: Molded TSSOP, Jedec, 5 x 4.4 x 0.9mm Body, 16 Lead, 0.65mm Pitch; RoHS: Y; PinCount: 16; CompType: Switcher; High-Reliability: Y; Code_JEDEC: MO-153-AB; ComponentLink1Description: Manufacturer URL; ComponentLink1URL: http://www.national.com/; ComponentLink2Description: LM5574 Datasheet; ComponentLink2URL: http://www.national.com/ds/LM/LM5574.pdf; ComponentLink3Description: LM5574 Web Page; ComponentLink3URL: http://www.national.com/pf/LM/LM5574.html; ComponentLink4Description: MTC16 Package Page; ComponentLink4URL: http://www.national.com/packaging/folders/mtc16.html
footprint MTC16_N (TSOP, 16-Leads, Body 5x4.4mm, Pitch 0.65mm, IPC Medium Density)
footprint MTC16_L (TSOP, 16-Leads, Body 5x4.4mm, Pitch 0.65mm, IPC High Density)
footprint MTC16_M (TSOP, 16-Leads, Body 5x4.4mm, Pitch 0.65mm, IPC Low Density)
pins: 1 VCC (power), 2 SD, 3 VIN (power), 4 SYNC, 5 COMP, 6 FB (in), 7 RT (in), 8 RAMP, 9 AGND (power), 10 SS (in), 11 OUT (power), 12 PGND (power), 13 IS (in), 14 SW (power), 15 PRE (oc), 16 BST

## LM5574MTX
designator U?
SIMPLE SWITCHER® 75V, 0.5A Step-Down Switching Regulator, 16-pin TSSOP; PartNumber: LM5574MTX; Manufacturer: National Semiconductor; PackageTopMarking: NSUZXYTT*LM5574*MT; PowerWise: Y; DatasheetVersion: Mar-2007; PackageVersion: revD, Jun-2003; PackageReference: MTC16; PackageDescription: Molded TSSOP, Jedec, 5 x 4.4 x 0.9mm Body, 16 Lead, 0.65mm Pitch; RoHS: N; PinCount: 16; CompType: Switcher; High-Reliability: Y; Code_JEDEC: MO-153-AB; ComponentLink1Description: Manufacturer URL; ComponentLink1URL: http://www.national.com/; ComponentLink2Description: LM5574 Datasheet; ComponentLink2URL: http://www.national.com/ds/LM/LM5574.pdf; ComponentLink3Description: LM5574 Web Page; ComponentLink3URL: http://www.national.com/pf/LM/LM5574.html; ComponentLink4Description: MTC16 Package Page; ComponentLink4URL: http://www.national.com/packaging/folders/mtc16.html
footprint MTC16_N (TSOP, 16-Leads, Body 5x4.4mm, Pitch 0.65mm, IPC Medium Density)
footprint MTC16_L (TSOP, 16-Leads, Body 5x4.4mm, Pitch 0.65mm, IPC High Density)
footprint MTC16_M (TSOP, 16-Leads, Body 5x4.4mm, Pitch 0.65mm, IPC Low Density)
pins: 1 VCC (power), 2 SD, 3 VIN (power), 4 SYNC, 5 COMP, 6 FB (in), 7 RT (in), 8 RAMP, 9 AGND (power), 10 SS (in), 11 OUT (power), 12 PGND (power), 13 IS (in), 14 SW (power), 15 PRE (oc), 16 BST

## LM5574MTX/NOPB
designator U?
SIMPLE SWITCHER® 75V, 0.5A Step-Down Switching Regulator, 16-pin TSSOP, Pb-Free; PartNumber: LM5574MTX/NOPB; Manufacturer: National Semiconductor; PackageTopMarking: NSUZXYTT*LM5574*MT; PowerWise: Y; DatasheetVersion: Mar-2007; PackageVersion: revD, Jun-2003; PackageReference: MTC16; PackageDescription: Molded TSSOP, Jedec, 5 x 4.4 x 0.9mm Body, 16 Lead, 0.65mm Pitch; RoHS: Y; PinCount: 16; CompType: Switcher; High-Reliability: Y; Code_JEDEC: MO-153-AB; ComponentLink1Description: Manufacturer URL; ComponentLink1URL: http://www.national.com/; ComponentLink2Description: LM5574 Datasheet; ComponentLink2URL: http://www.national.com/ds/LM/LM5574.pdf; ComponentLink3Description: LM5574 Web Page; ComponentLink3URL: http://www.national.com/pf/LM/LM5574.html; ComponentLink4Description: MTC16 Package Page; ComponentLink4URL: http://www.national.com/packaging/folders/mtc16.html
footprint MTC16_N (TSOP, 16-Leads, Body 5x4.4mm, Pitch 0.65mm, IPC Medium Density)
footprint MTC16_L (TSOP, 16-Leads, Body 5x4.4mm, Pitch 0.65mm, IPC High Density)
footprint MTC16_M (TSOP, 16-Leads, Body 5x4.4mm, Pitch 0.65mm, IPC Low Density)
pins: 1 VCC (power), 2 SD, 3 VIN (power), 4 SYNC, 5 COMP, 6 FB (in), 7 RT (in), 8 RAMP, 9 AGND (power), 10 SS (in), 11 OUT (power), 12 PGND (power), 13 IS (in), 14 SW (power), 15 PRE (oc), 16 BST

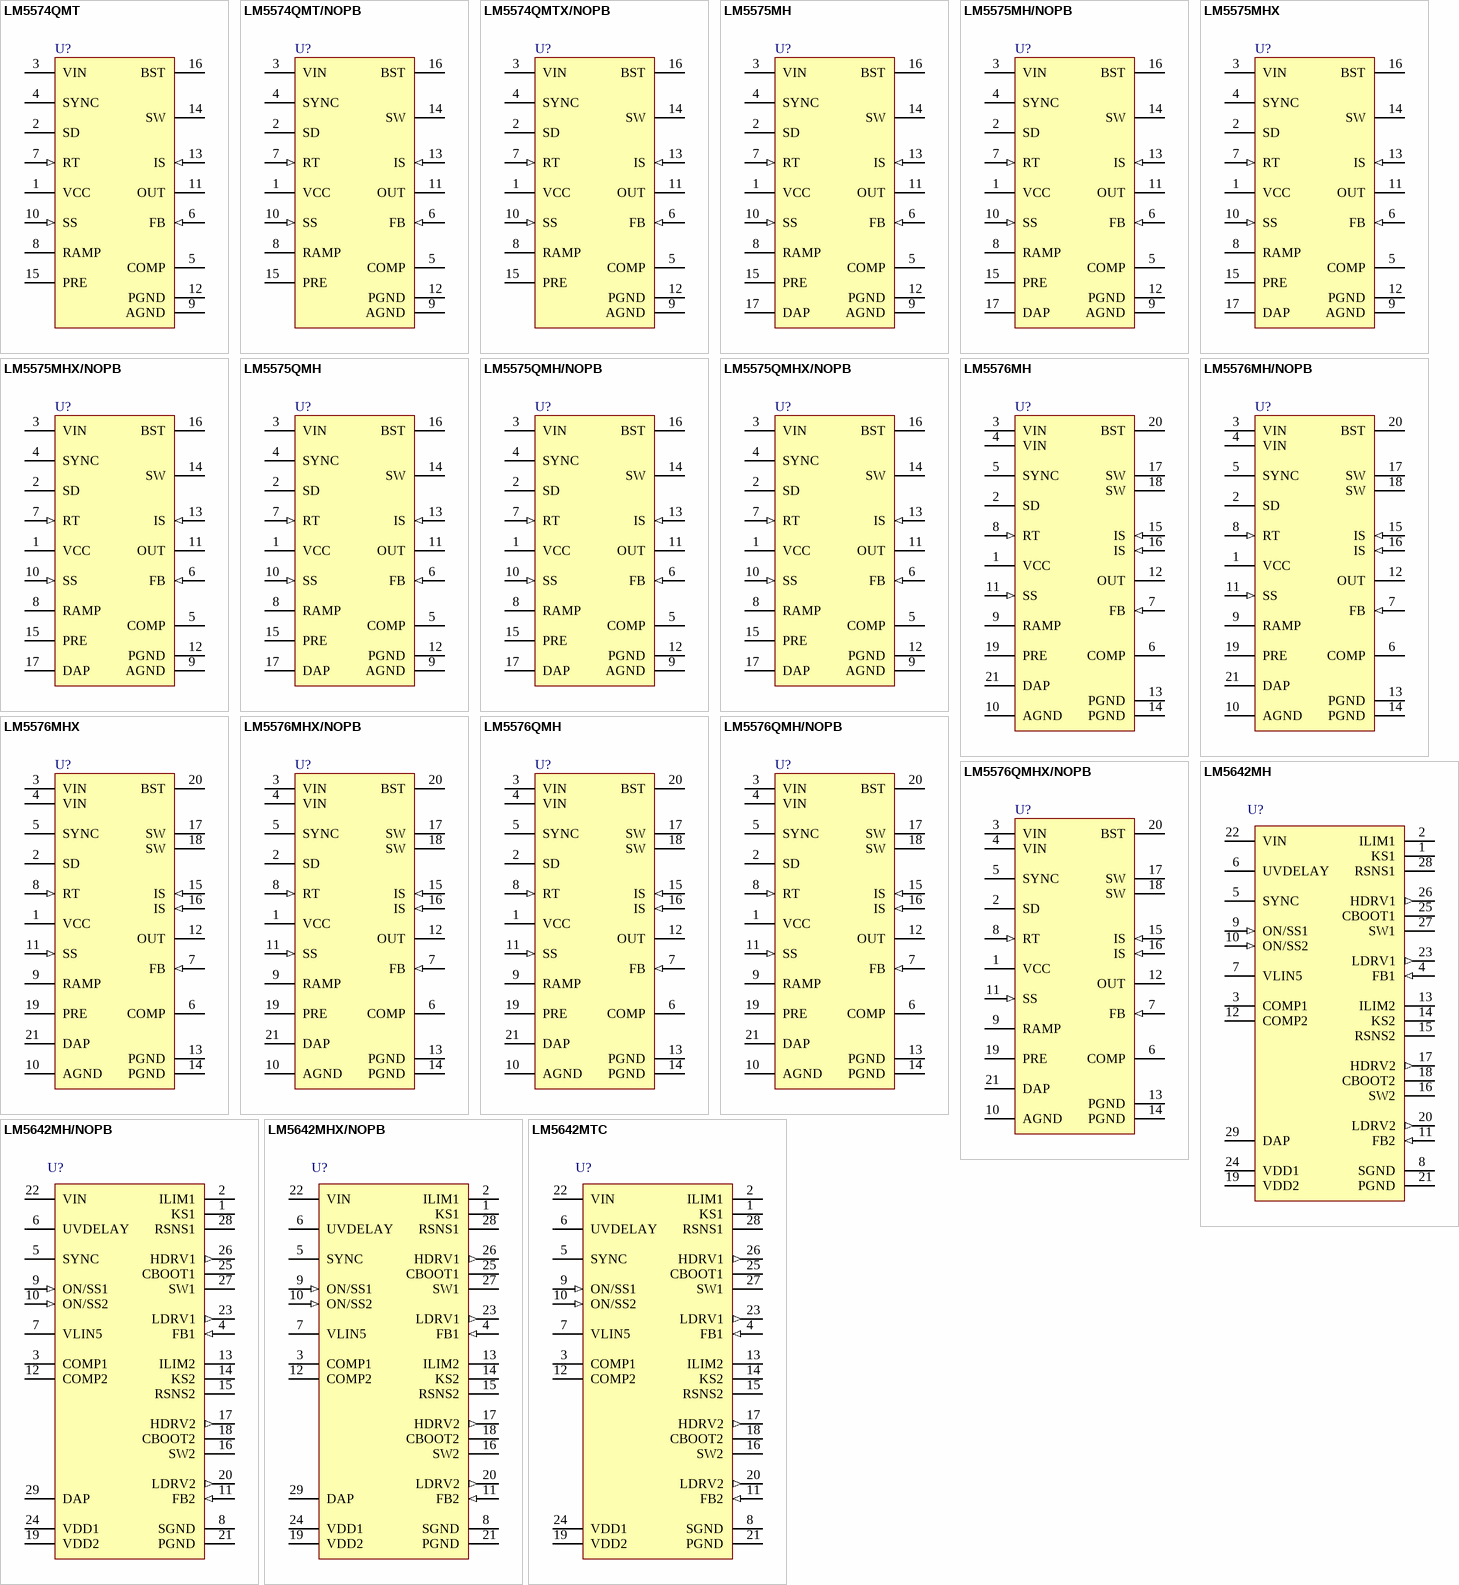
[diagram p46: symbols LM5574QMT to LM5642MTC]

## LM5574QMT
designator U?
SIMPLE SWITCHER® 75V, 0.5A Step-Down Switching Regulator, 16-pin TSSOP; PartNumber: LM5574QMT; Manufacturer: National Semiconductor; PackageTopMarking: NSUZXYTT*LM5574*QMT; PowerWise: N; High-Reliability: Y; DatasheetVersion: Feb-2009; PackageVersion: revD, Jun-2003; PackageReference: MTC16; PackageDescription: Molded TSSOP, Jedec, 5 x 4.4 x 0.9mm Body, 16 Lead, 0.65mm Pitch; RoHS: Y; PinCount: 16; CompType: Switcher; Code_JEDEC: MO-153-AB; ComponentLink1Description: Manufacturer URL; ComponentLink1URL: http://www.national.com/; ComponentLink2Description: LM5574 Datasheet; ComponentLink2URL: http://www.national.com/ds/LM/LM5574.pdf; ComponentLink3Description: LM5574 Web Page; ComponentLink3URL: http://www.national.com/pf/LM/LM5574.html; ComponentLink4Description: MTC16 Package Page; ComponentLink4URL: http://www.national.com/packaging/folders/mtc16.html
footprint MTC16_N (TSOP, 16-Leads, Body 5x4.4mm, Pitch 0.65mm, IPC Medium Density)
footprint MTC16_L (TSOP, 16-Leads, Body 5x4.4mm, Pitch 0.65mm, IPC High Density)
footprint MTC16_M (TSOP, 16-Leads, Body 5x4.4mm, Pitch 0.65mm, IPC Low Density)
pins: 1 VCC (power), 2 SD, 3 VIN (power), 4 SYNC, 5 COMP, 6 FB (in), 7 RT (in), 8 RAMP, 9 AGND (power), 10 SS (in), 11 OUT (power), 12 PGND (power), 13 IS (in), 14 SW (power), 15 PRE (oc), 16 BST

## LM5574QMT/NOPB
designator U?
SIMPLE SWITCHER® 75V, 0.5A Step-Down Switching Regulator, 16-pin TSSOP, Pb-Free; PartNumber: LM5574QMT/NOPB; Manufacturer: National Semiconductor; PackageTopMarking: NSUZXYTT*LM5574*QMT; PowerWise: N; High-Reliability: Y; DatasheetVersion: Feb-2009; PackageVersion: revD, Jun-2003; PackageReference: MTC16; PackageDescription: Molded TSSOP, Jedec, 5 x 4.4 x 0.9mm Body, 16 Lead, 0.65mm Pitch; RoHS: Y; PinCount: 16; CompType: Switcher; Code_JEDEC: MO-153-AB; ComponentLink1Description: Manufacturer URL; ComponentLink1URL: http://www.national.com/; ComponentLink2Description: LM5574 Datasheet; ComponentLink2URL: http://www.national.com/ds/LM/LM5574.pdf; ComponentLink3Description: LM5574 Web Page; ComponentLink3URL: http://www.national.com/pf/LM/LM5574.html; ComponentLink4Description: MTC16 Package Page; ComponentLink4URL: http://www.national.com/packaging/folders/mtc16.html
footprint MTC16_N (TSOP, 16-Leads, Body 5x4.4mm, Pitch 0.65mm, IPC Medium Density)
footprint MTC16_L (TSOP, 16-Leads, Body 5x4.4mm, Pitch 0.65mm, IPC High Density)
footprint MTC16_M (TSOP, 16-Leads, Body 5x4.4mm, Pitch 0.65mm, IPC Low Density)
pins: 1 VCC (power), 2 SD, 3 VIN (power), 4 SYNC, 5 COMP, 6 FB (in), 7 RT (in), 8 RAMP, 9 AGND (power), 10 SS (in), 11 OUT (power), 12 PGND (power), 13 IS (in), 14 SW (power), 15 PRE (oc), 16 BST

## LM5574QMTX/NOPB
designator U?
SIMPLE SWITCHER® 75V, 0.5A Step-Down Switching Regulator, 16-pin TSSOP, Pb-Free; PartNumber: LM5574QMTX/NOPB; Manufacturer: National Semiconductor; PackageTopMarking: NSUZXYTT*LM5574*QMT; PowerWise: N; High-Reliability: Y; DatasheetVersion: Feb-2009; PackageVersion: revD, Jun-2003; PackageReference: MTC16; PackageDescription: Molded TSSOP, Jedec, 5 x 4.4 x 0.9mm Body, 16 Lead, 0.65mm Pitch; RoHS: Y; PinCount: 16; CompType: Switcher; Code_JEDEC: MO-153-AB; ComponentLink1Description: Manufacturer URL; ComponentLink1URL: http://www.national.com/; ComponentLink2Description: LM5574 Datasheet; ComponentLink2URL: http://www.national.com/ds/LM/LM5574.pdf; ComponentLink3Description: LM5574 Web Page; ComponentLink3URL: http://www.national.com/pf/LM/LM5574.html; ComponentLink4Description: MTC16 Package Page; ComponentLink4URL: http://www.national.com/packaging/folders/mtc16.html
footprint MTC16_N (TSOP, 16-Leads, Body 5x4.4mm, Pitch 0.65mm, IPC Medium Density)
footprint MTC16_L (TSOP, 16-Leads, Body 5x4.4mm, Pitch 0.65mm, IPC High Density)
footprint MTC16_M (TSOP, 16-Leads, Body 5x4.4mm, Pitch 0.65mm, IPC Low Density)
pins: 1 VCC (power), 2 SD, 3 VIN (power), 4 SYNC, 5 COMP, 6 FB (in), 7 RT (in), 8 RAMP, 9 AGND (power), 10 SS (in), 11 OUT (power), 12 PGND (power), 13 IS (in), 14 SW (power), 15 PRE (oc), 16 BST

## LM5575MH
designator U?
SIMPLE SWITCHER® 75V, 1.5A Step-Down Switching Regulator, 16-pin TSSOP-EP; PartNumber: LM5575MH; Manufacturer: National Semiconductor; PackageTopMarking: NSUZXYTT*LM5575*MH; PowerWise: Y; DatasheetVersion: Mar-2007; PackageVersion: revA, Apr-2003; PackageReference: MXA16A; PackageDescription: Molded TSSOP, Jedec, Exposed Pad, 5.0 x 4.4 x 0.9mm Body,16 Lead, 0.65mm Pitch; RoHS: N; PinCount: 16; CompType: Switcher; High-Reliability: Y; Code_JEDEC: MO-153-ABT; ComponentLink1Description: Manufacturer URL; ComponentLink1URL: http://www.national.com/; ComponentLink2Description: LM5575 Datasheet; ComponentLink2URL: http://www.national.com/ds/LM/LM5575.pdf; ComponentLink3Description: LM5575 Web Page; ComponentLink3URL: http://www.national.com/pf/LM/LM5575.html; ComponentLink4Description: MXA16A Package Page; ComponentLink4URL: http://www.national.com/packaging/folders/mxa16a.html
footprint MXA16A_N (TSOP, 16-Leads, Body 5x4.4mm, Pitch 0.65mm, Thermal Pad, IPC Medium Density)
footprint MXA16A_L (TSOP, 16-Leads, Body 5x4.4mm, Pitch 0.65mm, Thermal Pad, IPC High Density)
footprint MXA16A_M (TSOP, 16-Leads, Body 5x4.4mm, Pitch 0.65mm, Thermal Pad, IPC Low Density)
pins: 1 VCC (power), 2 SD, 3 VIN (power), 4 SYNC, 5 COMP, 6 FB (in), 7 RT (in), 8 RAMP, 9 AGND (power), 10 SS (in), 11 OUT (power), 12 PGND (power), 13 IS (in), 14 SW (power), 15 PRE (oc), 16 BST, 17 DAP (power)

## LM5575MH/NOPB
designator U?
SIMPLE SWITCHER® 75V, 1.5A Step-Down Switching Regulator, 16-pin TSSOP-EP, Pb-Free; PartNumber: LM5575MH/NOPB; Manufacturer: National Semiconductor; PackageTopMarking: NSUZXYTT*LM5575*MH; PowerWise: Y; DatasheetVersion: Mar-2007; PackageVersion: revA, Apr-2003; PackageReference: MXA16A; PackageDescription: Molded TSSOP, Jedec, Exposed Pad, 5.0 x 4.4 x 0.9mm Body,16 Lead, 0.65mm Pitch; RoHS: Y; PinCount: 16; CompType: Switcher; High-Reliability: Y; Code_JEDEC: MO-153-ABT; ComponentLink1Description: Manufacturer URL; ComponentLink1URL: http://www.national.com/; ComponentLink2Description: LM5575 Datasheet; ComponentLink2URL: http://www.national.com/ds/LM/LM5575.pdf; ComponentLink3Description: LM5575 Web Page; ComponentLink3URL: http://www.national.com/pf/LM/LM5575.html; ComponentLink4Description: MXA16A Package Page; ComponentLink4URL: http://www.national.com/packaging/folders/mxa16a.html
footprint MXA16A_N (TSOP, 16-Leads, Body 5x4.4mm, Pitch 0.65mm, Thermal Pad, IPC Medium Density)
footprint MXA16A_L (TSOP, 16-Leads, Body 5x4.4mm, Pitch 0.65mm, Thermal Pad, IPC High Density)
footprint MXA16A_M (TSOP, 16-Leads, Body 5x4.4mm, Pitch 0.65mm, Thermal Pad, IPC Low Density)
pins: 1 VCC (power), 2 SD, 3 VIN (power), 4 SYNC, 5 COMP, 6 FB (in), 7 RT (in), 8 RAMP, 9 AGND (power), 10 SS (in), 11 OUT (power), 12 PGND (power), 13 IS (in), 14 SW (power), 15 PRE (oc), 16 BST, 17 DAP (power)

## LM5575MHX
designator U?
SIMPLE SWITCHER® 75V, 1.5A Step-Down Switching Regulator, 16-pin TSSOP-EP; PartNumber: LM5575MHX; Manufacturer: National Semiconductor; PackageTopMarking: NSUZXYTT*LM5575*MH; PowerWise: Y; DatasheetVersion: Mar-2007; PackageVersion: revA, Apr-2003; PackageReference: MXA16A; PackageDescription: Molded TSSOP, Jedec, Exposed Pad, 5.0 x 4.4 x 0.9mm Body,16 Lead, 0.65mm Pitch; RoHS: N; PinCount: 16; CompType: Switcher; High-Reliability: Y; Code_JEDEC: MO-153-ABT; ComponentLink1Description: Manufacturer URL; ComponentLink1URL: http://www.national.com/; ComponentLink2Description: LM5575 Datasheet; ComponentLink2URL: http://www.national.com/ds/LM/LM5575.pdf; ComponentLink3Description: LM5575 Web Page; ComponentLink3URL: http://www.national.com/pf/LM/LM5575.html; ComponentLink4Description: MXA16A Package Page; ComponentLink4URL: http://www.national.com/packaging/folders/mxa16a.html
footprint MXA16A_N (TSOP, 16-Leads, Body 5x4.4mm, Pitch 0.65mm, Thermal Pad, IPC Medium Density)
footprint MXA16A_L (TSOP, 16-Leads, Body 5x4.4mm, Pitch 0.65mm, Thermal Pad, IPC High Density)
footprint MXA16A_M (TSOP, 16-Leads, Body 5x4.4mm, Pitch 0.65mm, Thermal Pad, IPC Low Density)
pins: 1 VCC (power), 2 SD, 3 VIN (power), 4 SYNC, 5 COMP, 6 FB (in), 7 RT (in), 8 RAMP, 9 AGND (power), 10 SS (in), 11 OUT (power), 12 PGND (power), 13 IS (in), 14 SW (power), 15 PRE (oc), 16 BST, 17 DAP (power)

## LM5575MHX/NOPB
designator U?
SIMPLE SWITCHER® 75V, 1.5A Step-Down Switching Regulator, 16-pin TSSOP-EP, Pb-Free; PartNumber: LM5575MHX/NOPB; Manufacturer: National Semiconductor; PackageTopMarking: NSUZXYTT*LM5575*MH; PowerWise: Y; DatasheetVersion: Mar-2007; PackageVersion: revA, Apr-2003; PackageReference: MXA16A; PackageDescription: Molded TSSOP, Jedec, Exposed Pad, 5.0 x 4.4 x 0.9mm Body,16 Lead, 0.65mm Pitch; RoHS: Y; PinCount: 16; CompType: Switcher; High-Reliability: Y; Code_JEDEC: MO-153-ABT; ComponentLink1Description: Manufacturer URL; ComponentLink1URL: http://www.national.com/; ComponentLink2Description: LM5575 Datasheet; ComponentLink2URL: http://www.national.com/ds/LM/LM5575.pdf; ComponentLink3Description: LM5575 Web Page; ComponentLink3URL: http://www.national.com/pf/LM/LM5575.html; ComponentLink4Description: MXA16A Package Page; ComponentLink4URL: http://www.national.com/packaging/folders/mxa16a.html
footprint MXA16A_N (TSOP, 16-Leads, Body 5x4.4mm, Pitch 0.65mm, Thermal Pad, IPC Medium Density)
footprint MXA16A_L (TSOP, 16-Leads, Body 5x4.4mm, Pitch 0.65mm, Thermal Pad, IPC High Density)
footprint MXA16A_M (TSOP, 16-Leads, Body 5x4.4mm, Pitch 0.65mm, Thermal Pad, IPC Low Density)
pins: 1 VCC (power), 2 SD, 3 VIN (power), 4 SYNC, 5 COMP, 6 FB (in), 7 RT (in), 8 RAMP, 9 AGND (power), 10 SS (in), 11 OUT (power), 12 PGND (power), 13 IS (in), 14 SW (power), 15 PRE (oc), 16 BST, 17 DAP (power)

## LM5575QMH
designator U?
SIMPLE SWITCHER® 75V, 1.5A Step-Down Switching Regulator, 16-pin TSSOP-EP; PartNumber: LM5575QMH; Manufacturer: National Semiconductor; PackageTopMarking: NSUZXYTT*LM5575*QMH; PowerWise: N; High-Reliability: Y; DatasheetVersion: Feb-2009; PackageVersion: revA, Apr-2003; PackageReference: MXA16A; PackageDescription: Molded TSSOP, Jedec, Exposed Pad, 5.0 x 4.4 x 0.9mm Body,16 Lead, 0.65mm Pitch; RoHS: Y; PinCount: 16; CompType: Switcher; Code_JEDEC: MO-153-ABT; ComponentLink1Description: Manufacturer URL; ComponentLink1URL: http://www.national.com/; ComponentLink2Description: LM5575 Datasheet; ComponentLink2URL: http://www.national.com/ds/LM/LM5575.pdf; ComponentLink3Description: LM5575 Web Page; ComponentLink3URL: http://www.national.com/pf/LM/LM5575.html; ComponentLink4Description: MXA16A Package Page; ComponentLink4URL: http://www.national.com/packaging/folders/mxa16a.html
footprint MXA16A_N (TSOP, 16-Leads, Body 5x4.4mm, Pitch 0.65mm, Thermal Pad, IPC Medium Density)
footprint MXA16A_L (TSOP, 16-Leads, Body 5x4.4mm, Pitch 0.65mm, Thermal Pad, IPC High Density)
footprint MXA16A_M (TSOP, 16-Leads, Body 5x4.4mm, Pitch 0.65mm, Thermal Pad, IPC Low Density)
pins: 1 VCC (power), 2 SD, 3 VIN (power), 4 SYNC, 5 COMP, 6 FB (in), 7 RT (in), 8 RAMP, 9 AGND (power), 10 SS (in), 11 OUT (power), 12 PGND (power), 13 IS (in), 14 SW (power), 15 PRE (oc), 16 BST, 17 DAP (power)

## LM5575QMH/NOPB
designator U?
SIMPLE SWITCHER® 75V, 1.5A Step-Down Switching Regulator, 16-pin TSSOP-EP, Pb-Free; PartNumber: LM5575QMH/NOPB; Manufacturer: National Semiconductor; PackageTopMarking: NSUZXYTT*LM5575*QMH; PowerWise: N; High-Reliability: Y; DatasheetVersion: Feb-2009; PackageVersion: revA, Apr-2003; PackageReference: MXA16A; PackageDescription: Molded TSSOP, Jedec, Exposed Pad, 5.0 x 4.4 x 0.9mm Body,16 Lead, 0.65mm Pitch; RoHS: Y; PinCount: 16; CompType: Switcher; Code_JEDEC: MO-153-ABT; ComponentLink1Description: Manufacturer URL; ComponentLink1URL: http://www.national.com/; ComponentLink2Description: LM5575 Datasheet; ComponentLink2URL: http://www.national.com/ds/LM/LM5575.pdf; ComponentLink3Description: LM5575 Web Page; ComponentLink3URL: http://www.national.com/pf/LM/LM5575.html; ComponentLink4Description: MXA16A Package Page; ComponentLink4URL: http://www.national.com/packaging/folders/mxa16a.html
footprint MXA16A_N (TSOP, 16-Leads, Body 5x4.4mm, Pitch 0.65mm, Thermal Pad, IPC Medium Density)
footprint MXA16A_L (TSOP, 16-Leads, Body 5x4.4mm, Pitch 0.65mm, Thermal Pad, IPC High Density)
footprint MXA16A_M (TSOP, 16-Leads, Body 5x4.4mm, Pitch 0.65mm, Thermal Pad, IPC Low Density)
pins: 1 VCC (power), 2 SD, 3 VIN (power), 4 SYNC, 5 COMP, 6 FB (in), 7 RT (in), 8 RAMP, 9 AGND (power), 10 SS (in), 11 OUT (power), 12 PGND (power), 13 IS (in), 14 SW (power), 15 PRE (oc), 16 BST, 17 DAP (power)

## LM5575QMHX/NOPB
designator U?
SIMPLE SWITCHER® 75V, 1.5A Step-Down Switching Regulator, 16-pin TSSOP-EP, Pb-Free; PartNumber: LM5575QMHX/NOPB; Manufacturer: National Semiconductor; PackageTopMarking: NSUZXYTT*LM5575*QMH; PowerWise: N; High-Reliability: Y; DatasheetVersion: Feb-2009; PackageVersion: revA, Apr-2003; PackageReference: MXA16A; PackageDescription: Molded TSSOP, Jedec, Exposed Pad, 5.0 x 4.4 x 0.9mm Body,16 Lead, 0.65mm Pitch; RoHS: Y; PinCount: 16; CompType: Switcher; Code_JEDEC: MO-153-ABT; ComponentLink1Description: Manufacturer URL; ComponentLink1URL: http://www.national.com/; ComponentLink2Description: LM5575 Datasheet; ComponentLink2URL: http://www.national.com/ds/LM/LM5575.pdf; ComponentLink3Description: LM5575 Web Page; ComponentLink3URL: http://www.national.com/pf/LM/LM5575.html; ComponentLink4Description: MXA16A Package Page; ComponentLink4URL: http://www.national.com/packaging/folders/mxa16a.html
footprint MXA16A_N (TSOP, 16-Leads, Body 5x4.4mm, Pitch 0.65mm, Thermal Pad, IPC Medium Density)
footprint MXA16A_L (TSOP, 16-Leads, Body 5x4.4mm, Pitch 0.65mm, Thermal Pad, IPC High Density)
footprint MXA16A_M (TSOP, 16-Leads, Body 5x4.4mm, Pitch 0.65mm, Thermal Pad, IPC Low Density)
pins: 1 VCC (power), 2 SD, 3 VIN (power), 4 SYNC, 5 COMP, 6 FB (in), 7 RT (in), 8 RAMP, 9 AGND (power), 10 SS (in), 11 OUT (power), 12 PGND (power), 13 IS (in), 14 SW (power), 15 PRE (oc), 16 BST, 17 DAP (power)

## LM5576MH
designator U?
SIMPLE SWITCHER® 75V, 3A Step-Down Switching Regulator, 20-pin TSSOP-EP; PartNumber: LM5576MH; Manufacturer: National Semiconductor; PackageTopMarking: NSUZXYTT*LM5576*MH; PowerWise: Y; DatasheetVersion: Mar-2007; PackageVersion: revC, Jul-2006; PackageReference: MXA20A; PackageDescription: Molded TSSOP, Jedec, 6.5 x 4.4 x 0.9mm Body, 20 Lead, 0.65mm Pitch, Exposed Pad; RoHS: N; PinCount: 20; CompType: Switcher; High-Reliability: Y; Code_JEDEC: MO-153-ACT; ComponentLink1Description: Manufacturer URL; ComponentLink1URL: http://www.national.com/; ComponentLink2Description: LM5576 Datasheet; ComponentLink2URL: http://www.national.com/ds/LM/LM5576.pdf; ComponentLink3Description: LM5576 Web Page; ComponentLink3URL: http://www.national.com/pf/LM/LM5576.html; ComponentLink4Description: MXA20A Package Page; ComponentLink4URL: http://www.national.com/packaging/folders/mxa20a.html
footprint MXA20A_N (TSOP, 20-Leads, Body 6.5x4.4mm, Pitch 0.65mm, Thermal Pad, IPC Medium Density)
footprint MXA20A_L (TSOP, 20-Leads, Body 6.5x4.4mm, Pitch 0.65mm, Thermal Pad, IPC High Density)
footprint MXA20A_M (TSOP, 20-Leads, Body 6.5x4.4mm, Pitch 0.65mm, Thermal Pad, IPC Low Density)
pins: 1 VCC (power), 2 SD, 3 VIN (power), 4 VIN (power), 5 SYNC, 6 COMP, 7 FB (in), 8 RT (in), 9 RAMP, 10 AGND (power), 11 SS (in), 12 OUT (power), 13 PGND (power), 14 PGND (power), 15 IS (in), 16 IS (in), 17 SW (power), 18 SW (power), 19 PRE (oc), 20 BST, 21 DAP (power)